# EAGLE library part TX2?-* (library relay)
2 AMP. HIGH CAPACITY RELAY NAiS WITH HIGH SURGE VOLTAGE & HIGH BREAKDOWN VOLTAGE Source: http://www.mew-europe.com/.. en_ds_61022_0001.pdf
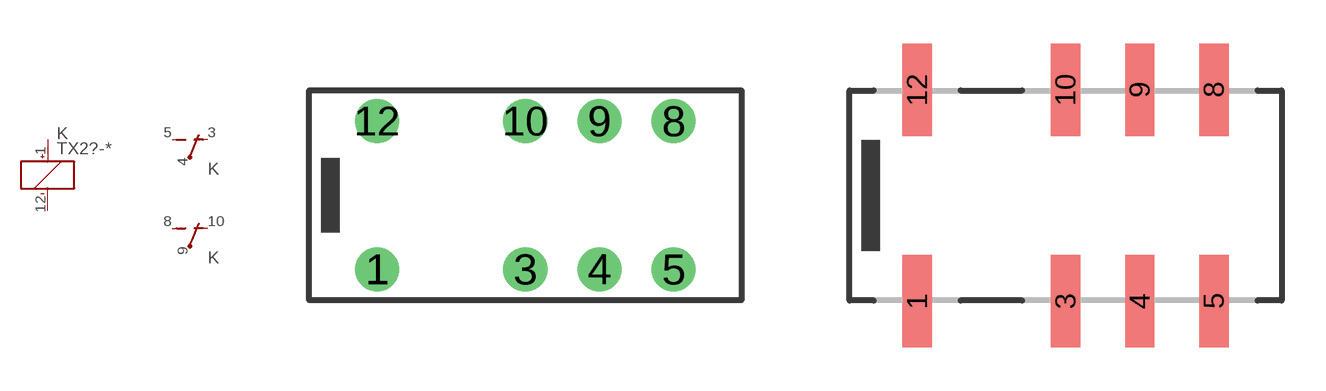
[diagram p79: symbol with the pads of TX2; footprints TX2, TX2SA]

Designator prefix K; gates _=K+- 1=U 2=U

## TX2-1.5V (MPN: TX2-1.5V; OC_FARNELL: unknown; OC_NEWARK: 13P9570), TX2-12V (MF: AROMAT/ MATSUSHITA; MPN: TX2-12V; OC_FARNELL: 1200952; OC_NEWARK: 67K1295), TX2-24V (MF: AROMAT/ MATSUSHITA; MPN: TX2-24V; OC_FARNELL: 1124059; OC_NEWARK: 64K3215), TX2-3V (MPN: TX2-3V; OC_FARNELL: unknown; OC_NEWARK: 13P9573), TX2-4.5V (MF: AROMAT/ MATSUSHITA; MPN: TX2-4.5V; OC_FARNELL: 1200950; OC_NEWARK: 64K3216), TX2-5V (MF: AROMAT/ MATSUSHITA; MPN: TX2-5V; OC_FARNELL: 1200950; OC_NEWARK: 67K1296), TX2-6V (MF: AROMAT/ MATSUSHITA; MPN: TX2-6V; OC_FARNELL: unknown; OC_NEWARK: 11C0387), TX2-9V (MF: AROMAT/ MATSUSHITA; MPN: TX2-9V; OC_FARNELL: unknown; OC_NEWARK: 11C0388)  [TX2]
1  _:+  pas
3  1:O  pas
4  1:P  pas
5  1:S  pas
8  2:S  pas
9  2:P  pas
10  2:O  pas
12  _:-  pas

## TX2SA-1.5V (OC_FARNELL: unknown; OC_NEWARK: unknown), TX2SA-12V (MF: AROMAT/ MATSUSHITA; MPN: TX2SA-12V; OC_FARNELL: 910480; OC_NEWARK: 64K3217), TX2SA-24V (MF: AROMAT/ MATSUSHITA; MPN: TX2SA-24V; OC_FARNELL: 1652603; OC_NEWARK: 64K3218), TX2SA-3V (MPN: TX2SA-3V; OC_FARNELL: unknown; OC_NEWARK: 13P9584), TX2SA-4.5V (MF: AROMAT/ MATSUSHITA; MPN: TX2SA-4.5V; OC_FARNELL: unknown; OC_NEWARK: 92F1604), TX2SA-48V (OC_FARNELL: unknown; OC_NEWARK: unknown), TX2SA-5V (MPN: TX2SA-5V; OC_FARNELL: 1200957; OC_NEWARK: 13P9589), TX2SA-6V (MPN: TX2SA-6V-X; OC_FARNELL: unknown; OC_NEWARK: 13P9592), TX2SA-9V (MPN: TX2SA-9V; OC_FARNELL: unknown; OC_NEWARK: 13P9593)  [TX2SA]
Pads as for TX2

## TX2-L-1.5V (OC_FARNELL: unknown; OC_NEWARK: unknown), TX2-L-12V (MPN: TX2-L-12V; OC_FARNELL: unknown; OC_NEWARK: 11C0367), TX2-L-24V (MPN: TX2-L-24V-1; OC_FARNELL: unknown; OC_NEWARK: 12N3976), TX2-L-3V (MPN: TX2-L-3V; OC_FARNELL: unknown; OC_NEWARK: 15P9975), TX2-L-4.5V (MPN: TX2-L-4.5V; OC_FARNELL: unknown; OC_NEWARK: 15P9976), TX2-L-5V (MPN: TX2-L-5V; OC_FARNELL: unknown; OC_NEWARK: 15P9977), TX2-L-6V (OC_FARNELL: unknown; OC_NEWARK: unknown), TX2-L-9V (MPN: TX2-L-9V; OC_FARNELL: unknown; OC_NEWARK: 15P9978)  [TX2]
1  _:-  pas
3  1:O  pas
4  1:P  pas
5  1:S  pas
8  2:S  pas
9  2:P  pas
10  2:O  pas
12  _:+  pas

## TX2SL-1.5V (OC_FARNELL: unknown; OC_NEWARK: unknown), TX2SL-12V (MF: AROMAT/ MATSUSHITA; MPN: TX2SL-12V; OC_FARNELL: unknown; OC_NEWARK: 11C0519), TX2SL-24V (MPN: TX2SL-24V; OC_FARNELL: unknown; OC_NEWARK: 16P9442), TX2SL-3V (MPN: TX2SL-3V; OC_FARNELL: unknown; OC_NEWARK: 13P9598), TX2SL-4.5V (MPN: TX2SL-4.5V; OC_FARNELL: unknown; OC_NEWARK: 13P9600), TX2SL-48V (MPN: TX2SL-48V; OC_FARNELL: unknown; OC_NEWARK: 13P9602), TX2SL-5V (MPN: TX2SL-5V; OC_FARNELL: unknown; OC_NEWARK: 13P9603), TX2SL-6V (OC_FARNELL: unknown; OC_NEWARK: unknown), TX2SL-9V (MPN: TX2SL-9V-1; OC_FARNELL: unknown; OC_NEWARK: 11N6123)  [TX2SL]
Pads as for TX2

## TX2SS-1.5V (OC_FARNELL: unknown; OC_NEWARK: unknown), TX2SS-12V (OC_FARNELL: unknown; OC_NEWARK: unknown), TX2SS-24V (MPN: TX2SS-24V; OC_FARNELL: unknown; OC_NEWARK: 13P9605), TX2SS-3V (MPN: TX2SS-3V-Z; OC_FARNELL: unknown; OC_NEWARK: 13P9606), TX2SS-4.5V (MPN: TX2SS-4.5V; OC_FARNELL: unknown; OC_NEWARK: 13P9607), TX2SS-48V (MPN: TX2SS-48V; OC_FARNELL: unknown; OC_NEWARK: 13P9609), TX2SS-5V (MPN: TX2SS-5V; OC_FARNELL: unknown; OC_NEWARK: 13P9610), TX2SS-6V (OC_FARNELL: unknown; OC_NEWARK: unknown), TX2SS-9V (OC_FARNELL: unknown; OC_NEWARK: unknown)  [TX2SS]
Pads as for TX2

## TX2SA-L-1.5V (OC_FARNELL: unknown; OC_NEWARK: unknown), TX2SA-L-12V (OC_FARNELL: unknown; OC_NEWARK: unknown), TX2SA-L-24V (OC_FARNELL: unknown; OC_NEWARK: unknown), TX2SA-L-3V (OC_FARNELL: unknown; OC_NEWARK: unknown), TX2SA-L-4.5V (OC_FARNELL: unknown; OC_NEWARK: unknown), TX2SA-L-5V (OC_FARNELL: unknown; OC_NEWARK: unknown), TX2SA-L-6V (OC_FARNELL: unknown; OC_NEWARK: unknown), TX2SA-L-9V (OC_FARNELL: unknown; OC_NEWARK: unknown)  [TX2SA]
Pads as for TX2

## TX2SL-L-1.5V (OC_FARNELL: unknown; OC_NEWARK: unknown), TX2SL-L-12V (OC_FARNELL: unknown; OC_NEWARK: unknown), TX2SL-L-24V (MPN: TX2SL-L-24V-1; OC_FARNELL: unknown; OC_NEWARK: 12N3990), TX2SL-L-3V (MF: AROMAT/ MATSUSHITA; MPN: TX2SL-L-3V; OC_FARNELL: unknown; OC_NEWARK: 11C0477), TX2SL-L-4.5V (OC_FARNELL: unknown; OC_NEWARK: unknown), TX2SL-L-5V (OC_FARNELL: unknown; OC_NEWARK: unknown), TX2SL-L-6V (OC_FARNELL: unknown; OC_NEWARK: unknown), TX2SL-L-9V (OC_FARNELL: unknown; OC_NEWARK: unknown)  [TX2SL]
Pads as for TX2

## TX2SS-L-1.5V (OC_FARNELL: unknown; OC_NEWARK: unknown), TX2SS-L-12V (MF: AROMAT/ MATSUSHITA; MPN: TX2SS-L-12V-Z; OC_FARNELL: unknown; OC_NEWARK: 11C0549), TX2SS-L-24V (OC_FARNELL: unknown; OC_NEWARK: unknown), TX2SS-L-3V (MPN: TX2SS-L-3V-1; OC_FARNELL: unknown; OC_NEWARK: 12N3991), TX2SS-L-4.5V (OC_FARNELL: unknown; OC_NEWARK: unknown), TX2SS-L-5V (OC_FARNELL: unknown; OC_NEWARK: unknown), TX2SS-L-6V (OC_FARNELL: unknown; OC_NEWARK: unknown), TX2SS-L-9V (OC_FARNELL: unknown; OC_NEWARK: unknown)  [TX2SS]
Pads as for TX2

## Footprint TX2 (pad centres in mm)
2 AMP. HIGH CAPACITY RELAY NAiS WITH HIGH SURGE VOLTAGE & HIGH BREAKDOWN VOLTAGE Source: http://www.mew-europe.com/.. en_ds_61022_0001.pdf
drill 1: 1 -5.08,-2.54; 3 0,-2.54; 4 2.54,-2.54; 5 5.08,-2.54; 8 5.08,2.54; 9 2.54,2.54; 10 0,2.54; 12 -5.08,2.54

## Footprint TX2SA (pad centres in mm)
2 AMP. HIGH CAPACITY RELAY NAiS WITH HIGH SURGE VOLTAGE & HIGH BREAKDOWN VOLTAGE Source: http://www.mew-europe.com/.. en_ds_61022_0001.pdf
smd 1 x 3.16: 1 -5.08,-3.62; 3 0,-3.62; 4 2.54,-3.62; 5 5.08,-3.62; 8 5.08,3.62; 9 2.54,3.62; 10 0,3.62; 12 -5.08,3.62

## Footprint TX2SL (pad centres in mm)
2 AMP. HIGH CAPACITY RELAY NAiS WITH HIGH SURGE VOLTAGE & HIGH BREAKDOWN VOLTAGE Source: http://www.mew-europe.com/.. en_ds_61022_0001.pdf
smd 1 x 3.16: 1 -5.08,-3.62; 3 0,-3.62; 4 2.54,-3.62; 5 5.08,-3.62; 8 5.08,3.62; 9 2.54,3.62; 10 0,3.62; 12 -5.08,3.62

## Footprint TX2SS (pad centres in mm)
2 AMP. HIGH CAPACITY RELAY NAiS WITH HIGH SURGE VOLTAGE & HIGH BREAKDOWN VOLTAGE Source: http://www.mew-europe.com/.. en_ds_61022_0001.pdf
smd 1 x 2.16: 1 -5.08,-3.12; 3 0,-3.12; 4 2.54,-3.12; 5 5.08,-3.12; 8 5.08,3.12; 9 2.54,3.12; 10 0,3.12; 12 -5.08,3.12